# Altium schematic symbol library IXYS.SchLib: 1 symbol
Pins are listed as number, name and electrical type; pins without a type are passive.

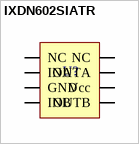
[diagram p0: symbol IXDN602SIATR]

## IXDN602SIATR
designator U?  (value not drawn)
2A 8 LEAD SOIC DUAL NON INVERTIN; Manufacturer: Ixys Clare; Manufacturer Part Number: IXDN602SIATR; Rise Time: 15ns; Propagation Delay: 60ns; Max Supply Voltage: 35V; Min Supply Voltage: 4.5V; Number of Outputs: 2; Supplier 1: Digi-Key; Supplier Part Number 1: 212-IXDN602SIACT-ND; Stock 1: 944; Pricing 1: 1 = 1.36000, 10 = 1.21500, 25 = 1.15360, 100 = 0.88580, 250 = 0.78280, 500 = 0.74160, 1000 = 0.57680 (USD); RoHS: Yes; Mount: Surface Mount; Case/Package: SOIC; Number of Pins: 8; Min Operating Temperature: -40°C; Max Operating Temperature: 125°C; Max Output Current: 2A; Packaging: Tape and Reel; Package Quantity: 2000; Number of Drivers: 2; Fall Time: 15ns; Turn-On Delay Time: 60ns; Radiation Hardening: No; Lead Free: Lead Free; ComponentLink1URL: https://datasheet.ciiva.com/16496/ixd-602-16496331.pdf?src-supplier=Future+Electronics; ComponentLink1Description: https://datasheet.ciiva.com/16496/ixd-602-16496331.pdf?src-supplier=Future+Electronics
footprint SOP127P600X170_HS-9N (SOP, 8-Leads, Body 4.90x3.90mm, Pitch 1.27mm, Thermal Pad 3.06x2.23mm, IPC Medium Density)
pins: 1 NC, 2 INA, 3 GND, 4 INB, 5 OUTB, 6 Vcc, 7 OUTA, 8 NC